# Altium schematic symbol library SamacSys.SchLib: 337 symbols (part 4 of 4)
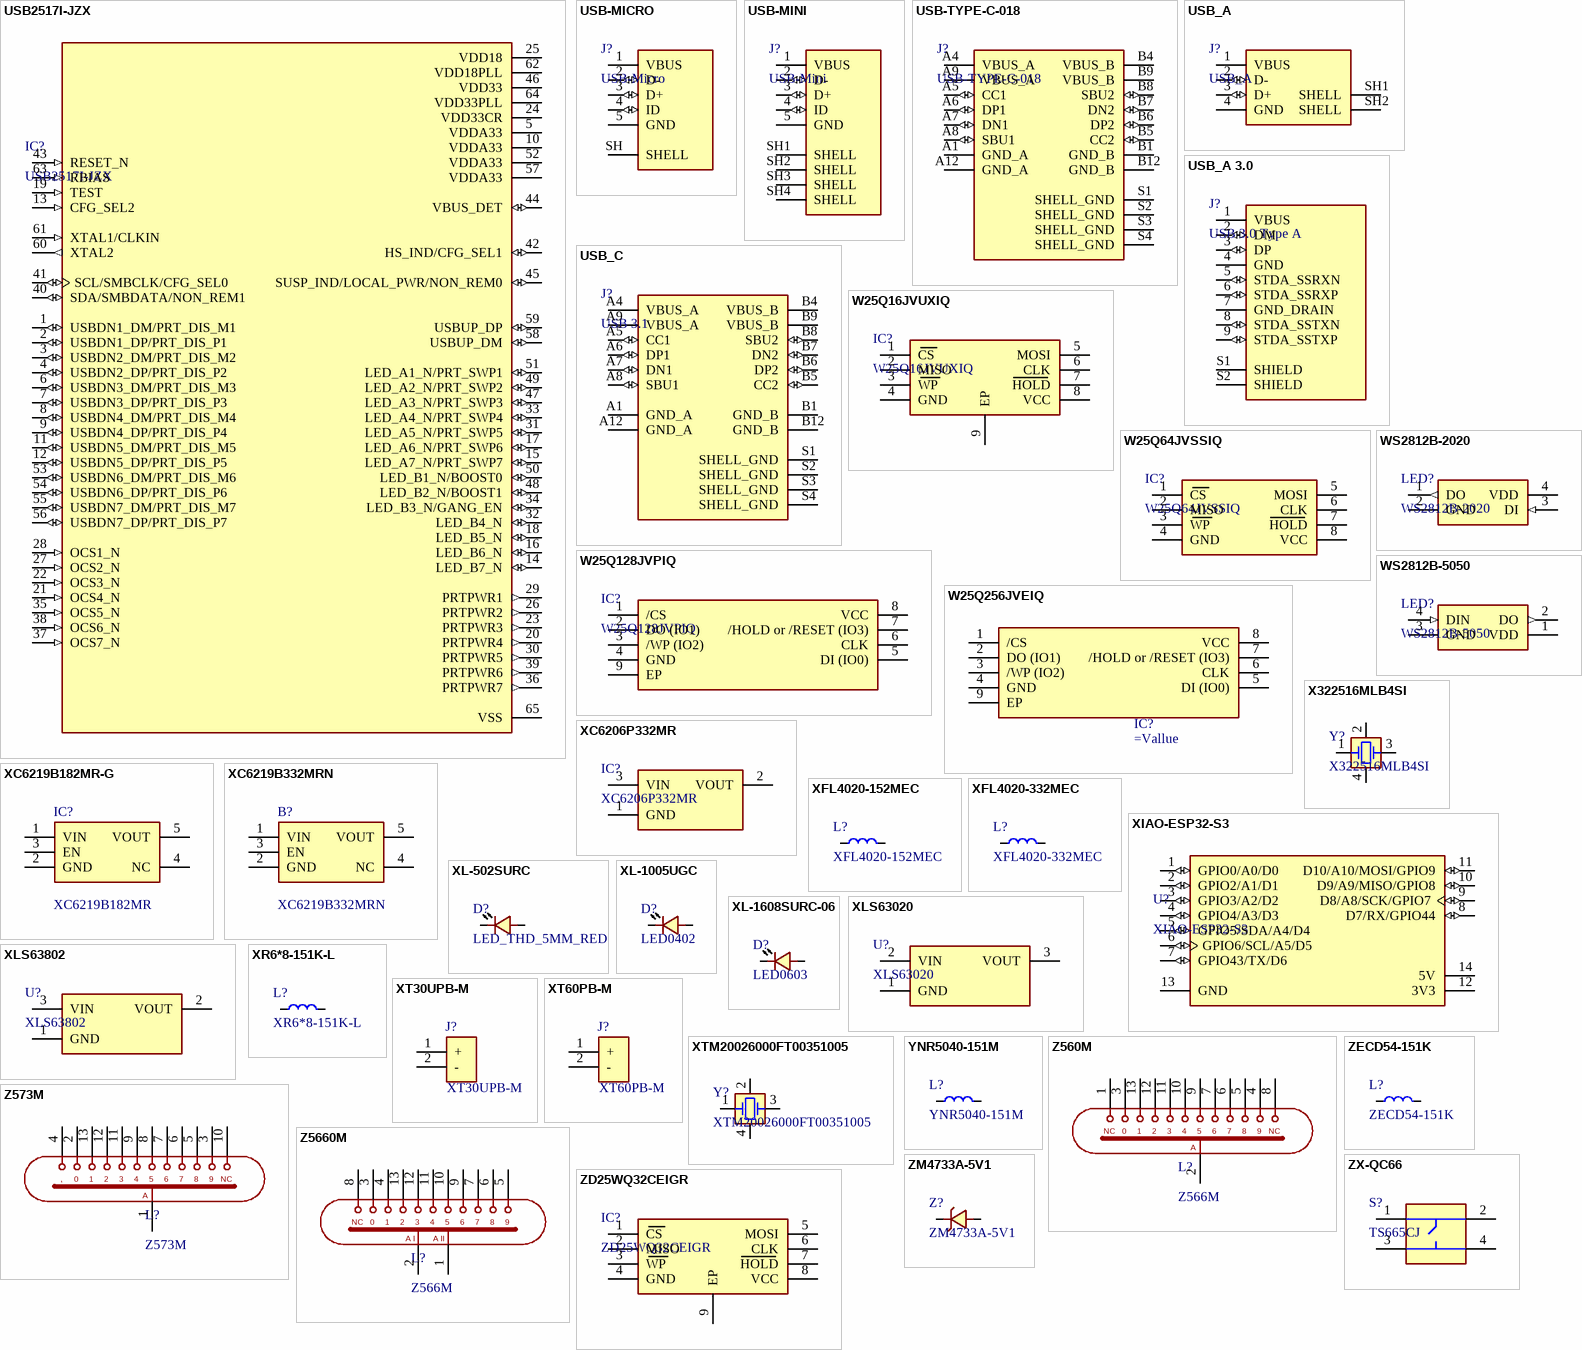
[diagram p13: symbols USB2517I-JZX to ZX-QC66]

## W25Q128JVPIQ
designator IC?
NOR FLASH, WSON-8-EP(5x6), 128Mbit, 133MHz, SPI, NOR FLASH, ROHS; Manufacturer_Name: Winbond; Datasheet Link: https://www.winbond.com/hq/search-resource-file.jsp?partNo=W25Q128JVPIQ&type=datasheet; Height: 0.8mm; Manufacturer_Part_Number: W25Q128JVPIQ; Mouser Part Number: 454-W25Q128JVPIQ; Mouser Price/Stock: https://www.mouser.co.uk/ProductDetail/Winbond/W25Q128JVPIQ?qs=qSfuJ%252Bfl%2Fd676hAD%252B1JSfw%3D%3D; Arrow Part Number: W25Q128JVPIQ; Arrow Price/Stock: https://www.arrow.com/en/products/w25q128jvpiq/winbond-electronics?region=nac; Value: W25Q128JVPIQ
footprint SON127P600X500X80-9N-D
pins: 1 /CS, 2 DO (IO1), 3 /WP (IO2), 4 GND, 5 DI (IO0), 6 CLK, 7 /HOLD or /RESET (IO3), 8 VCC, 9 EP

## W25Q256JVEIQ
designator IC?
NOR FLASH, WSON-8-EP(6x8), 256Mbit, 133MHz, SPI, NOR FLASH, ROHS; Manufacturer_Name: Winbond; Manufacturer_Part_Number: W25Q256JVEIQ; Geometry.Height: 0.8mm; Value: W25Q256JVEIQ; Mouser Part Number: 454-W25Q256JVEIQ; Mouser Price/Stock: https://www.mouser.co.uk/ProductDetail/Winbond/W25Q256JVEIQ?qs=qSfuJ%252Bfl%2Fd4o%2FNFUf7yCgA%3D%3D; Arrow Part Number: W25Q256JVEIQ; Arrow Price/Stock: https://www.arrow.com/en/products/w25q256jveiq/winbond-electronics?region=nac; Datasheet Link: https://www.winbond.com/hq/search-resource-file.jsp?partNo=W25Q256JVEIQ&type=datasheet
footprint SON127P800X600X80-9N-D
pins: 1 /CS, 2 DO (IO1), 3 /WP (IO2), 4 GND, 5 DI (IO0), 6 CLK, 7 /HOLD or /RESET (IO3), 8 VCC, 9 EP

## WS2812B-2020
designator LED?
LED (Built-in IC), SMD, 2.2x2mm, RGB LEDs(Built-in IC), ROHS; Datasheet Link: https://www.alldatasheet.com/datasheet-pdf/pdf/1134522/WORLDSEMI/WS2812B-2020.html; Height: 0.84mm; Value: WS2812B-2020
footprint WS2812B2020
pins: 1 DO (out), 2 GND (power), 3 DI (in), 4 VDD (power)

## WS2812B-5050
designator LED?
LED (Built-in IC), SMD, 5x5mm, RGB LEDs(Built-in IC), ROHS; Datasheet Link: https://www.alldatasheet.com/datasheet-pdf/pdf/1134522/WORLDSEMI/WS2812B-2020.html; Height: 0.84mm; Value: WS2812B-5050
footprint WS2812B5050
footprint WS2812B5050_2020
footprint WS2812B5050_2020 - SHORT
pins: 1 VDD, 2 DO (out), 3 GND, 4 DIN (in)

## X322516MLB4SI
designator Y?
Crystal Oscillator, SMD, 3225(3.2x2.5), 9pF, Crystals ROHS; Datasheet Link: https://datasheet.datasheetarchive.com/originals/distributors/Datasheets_SAMA/e448b11b6d77781431a8823f463adabd.pdf; Height: 0.9mm; Value: X322516MLB4SI
footprint XTL_4_3225 (Crystal, 4-Leads, Body 2.50x3.20mm, Pitch 2.20mm, IPC Medium Density)
pins: 1 XA, 2 GND1, 3 XB, 4 GND2

## XC6206P332MR
designator IC?
Low Drop Out (LDO) Regulator, SOT-23-3L, 200mA, Fixed, 3.3V, Positive Electrode, 6V, Voltage Regulators - Linear, Low Drop Out (LDO) Regulators, ROHS; Manufacturer_Name: Torex; Datasheet Link: http://www.torexsemi.com/products/voltage_regulators/data/XC6206.pdf; Height: 1.3mm; Manufacturer_Part_Number: XC6206P332MR; Mouser Part Number: N/A; Mouser Price/Stock: https://www.mouser.co.uk/ProductDetail/Torex-Semiconductor/XC6206P332MR?qs=TiOZkKH1s2Qxu69VLzzkSQ%3D%3D; Value: XC6206P332MR
footprint SOT95P280X130-3N
pins: 1 GND (power), 2 VOUT (power), 3 VIN (power)

## XC6219B182MR-G
designator IC?, comment XC6219B182MR
Low Drop Out (LDO) Regulator, SOT-23-5, 75dB@(1kHz), 300mA, Fixed 1.8V, Positive 7V, Voltage Regulators - Linear, Low Drop Out (LDO) Regulators ROHS; Manufacturer_Name: Torex; Manufacturer_Part_Number: XC6219B182MR-G; Geometry.Height: 1.3mm; Mouser Part Number: 865-XC6219B182MR-G; Mouser Price/Stock: https://www.mouser.co.uk/ProductDetail/Torex-Semiconductor/XC6219B182MR-G?qs=AsjdqWjXhJ8V%252BwSeYNOfsQ%3D%3D; Arrow Part Number: *; Arrow Price/Stock: *; Datasheet Link: https://www.torexsemi.com/file/xc6219/XC6219.pdf; Value: XC6219B182MR
footprint SOT95P280X130-5N
pins: 1 VIN, 2 GND, 3 EN, 4 NC, 5 VOUT

## XC6219B332MRN
designator B?
Low Drop Out (LDO) Regulator, SOT-23-5, 70dB@(10kHz), 240mA, Fixed, 3.3V, Positive Electrode, 6V, Voltage Regulators - Linear, Low Drop Out (LDO) Regulators, ROHS; Manufacturer_Name: Torex; Geometry.Height: 1.3mm; Manufacturer_Part_Number: XC6219B332MRN; Mouser Part Number: *; Mouser Price/Stock: *; Arrow Part Number: *; Arrow Price/Stock: *; Datasheet Link: https://componentsearchengine.com/Datasheets/2/XC6219B332MRN.pdf; Value: XC6219B332MRN
footprint SOT95P280X100-5N
pins: 1 VIN, 2 GND, 3 EN, 4 NC, 5 VOUT

## XFL4020-152MEC
designator L?
Fixed Inductor, SMD, 4x4mm, 1.5uH, 4.6A, ±20%, 9.1A, 14.4mΩ, Fixed Inductors, RoHS; Value: XFL4020-152MEC
footprint IND_SMD_4020
pins: 1, 2

## XFL4020-332MEC
designator L?
Fixed Inductor, SMD, 4x4mm, 3.3uH, 5.2A, ±20%, 2.9A, 34.8mΩ, Fixed Inductors, RoHS; Value: XFL4020-332MEC
footprint IND_SMD_4020
pins: 1, 2

## XIAO-ESP32-S3
designator U?
Development Board, SMD, 2.4GHz Wi-Fi (802.11 b/g/n) and Bluetooth 5 (LE) module, WiFi Modules, ROHS; MF: Seeed Technology Co., Ltd; MP: 102010428; SnapEDA_Link: https://www.snapeda.com/parts/102010428/Seeed+Technology+Co.%252C+Ltd/view-part/?ref=snap; Package: None; Value: XIAO-ESP32-S3; Check_prices: https://www.snapeda.com/parts/102010428/Seeed+Technology+Co.%252C+Ltd/view-part/?ref=eda
footprint XIAO_ESP32_S3_SMD
footprint XIAO_ESP32_S3_DIP
pins: 1 GPIO0/A0/D0 (io), 2 GPIO2/A1/D1 (io), 3 GPIO3/A2/D2 (io), 4 GPIO4/A3/D3 (io), 5 GPIO5/SDA/A4/D4 (io), 6 GPIO6/SCL/A5/D5 (io), 7 GPIO43/TX/D6 (io), 8 D7/RX/GPIO44 (io), 9 D8/A8/SCK/GPIO7 (io), 10 D9/A9/MISO/GPIO8 (io), 11 D10/A10/MOSI/GPIO9 (io), 12 3V3 (power), 13 GND (power), 14 5V (power)

## XL-502SURC
designator D?, comment LED_THD_5MM_RED
LED Indication - Discrete, 5mm, 20mA, 300mcd, Colorless Transparent Lens, 620nm~630nm, -20℃~+85℃, Red, 5mm Round Lamp Head, 50mW, 2.3V, Plugin, LED Indication - Discrete, ROHS; Datasheet Link: https://katalog.we-online.de/led/datasheet/150060GS55040.pdf; Height: 0.5mm; Value: LED_THD_5MM_RED
footprint LED THD 5MM RED
pins: 1 Kathode, 2 Anode

## XL-1005UGC
designator D?, comment LED0402
LED Indication - Discrete, 0402, 25mA, 249mcd, Colorless, Transparent Lens, -30℃~+85℃, Positive Stick, 516nm~531nm, Emerald, 120°, 80mW, 3V, LED Indication - Discrete, ROHS; Value: LED0402
footprint LED_SMD_0402_(M1005)_RED (Chip Diode, 2-Leads, Body 1.00x0.50mm, IPC Medium Density)
footprint LED_SMD_0402_(M1005)_GREEN
footprint LED_SMD_0402A_(M1005)_GREEN (Chip Diode, 2-Leads, Body 1.00x0.50mm, IPC Medium Density)
pins: 1 Kathode, 2 Anode

## XL-1608SURC-06
designator D?, comment LED0603
LED Indication - Discrete, 0603, 20mA, 225mcd, Colorless Transparent Lens, -20℃~+85℃, Positive Stick, 620nm~630nm, Red, 120°, 50mW, 2.3V, LED Indication - Discrete, ROHS; Datasheet Link: https://katalog.we-online.de/led/datasheet/150060GS55040.pdf; Height: 0.5mm; Value: LED0603
footprint LED 0603_(1608)_0402A_(1005) (Chip Diode, 2-Leads, Body 1.60x0.80mm, IPC Medium Density)
pins: 1 Kathode, 2 Anode

## XLS63020
designator U?
Development Board, DC-DC Controller, Boost Type, Adjustable, 1.2V~5.5V, 1.8V~5.5V, DC-DC Converters, ROHS; MP: TPS63802DLAR; MF: Texas Instruments; Check_prices: https://www.snapeda.com/parts/TPS63802DLAR/Texas+Instruments/view-part/?ref=eda; Value: XLS63020; Availability: In Stock; Price: None; Package: VSON-HR-10 Texas Instruments; SnapEDA_Link: https://www.snapeda.com/parts/TPS63802DLAR/Texas+Instruments/view-part/?ref=snap; Purchase-URL: https://pricing.snapeda.com/search/part/TPS63802DLAR/?ref=eda
footprint XLS63020
pins: 1 GND (power), 2 VIN (power), 3 VOUT (power)

## XLS63802
designator U?
Development Board, DC-DC Controller, Boost Type, Adjustable, 1.3V~5.5V, 2A, 1.8V~5.2V, DC-DC Converters, ROHS; MP: TPS63802DLAR; MF: Texas Instruments; Check_prices: https://www.snapeda.com/parts/TPS63802DLAR/Texas+Instruments/view-part/?ref=eda; Value: XLS63802; Availability: In Stock; Price: None; Package: VSON-HR-10 Texas Instruments; SnapEDA_Link: https://www.snapeda.com/parts/TPS63802DLAR/Texas+Instruments/view-part/?ref=snap; Purchase-URL: https://pricing.snapeda.com/search/part/TPS63802DLAR/?ref=eda
footprint XLS63802
pins: 1 GND (power), 2 VOUT (power), 3 VIN (power)

## XR6*8-151K-L
designator L?
Fixed Inductor, Through Hole, D6xL8mm, 150uH, ±10%, 500mA, 780mΩ,  Drum-core Inductor, Fixed Inductors, RoHS; Value: XR6*8-151K-L
footprint XR6*8-151K-L_FNR6045S151MT_THD (Inductor)
footprint CDRH74N + CD54 + TH
footprint XR6*8-151K-L_CDRH74N_THD
pins: 1, 2

## XT30UPB-M
designator J?
Connector, DC Supply, Male, PCB, THD, 20A, Banana and Tip Connector Adapters, RoHS; Manufacturer_Name: Amass; Manufacturer_Part_Number: XT60PB-M; Geometry.Height: 15.9mm; Mouser Part Number: *; Mouser Price/Stock: *; Arrow Part Number: *; Arrow Price/Stock: *; Datasheet Link: https://www.tme.eu/Document/ceb306d6300f4d2860483975b79af125/XT60UPB-M.pdf; Value: XT30UPB-M
footprint XT30UPB-M
pins: 1 +, 2 -

## XT60PB-M
designator J?
Connector, DC Supply, Male, PCB, THD, 30A, Banana and Tip Connector Adapters, RoHS; Manufacturer_Name: Amass; Geometry.Height: 15.9mm; Manufacturer_Part_Number: XT60PB-M; Mouser Part Number: *; Mouser Price/Stock: *; Arrow Part Number: *; Arrow Price/Stock: *; Datasheet Link: https://www.tme.eu/Document/ceb306d6300f4d2860483975b79af125/XT60UPB-M.pdf; Value: XT60PB-M
footprint XT60PB-M (Footprint not found)
pins: 1 +, 2 -

## XTM20026000FT00351005
designator Y?
Crystal Oscillator, SMD, SMD2016-4P, 2x1.6mm, 26MHz, 9pF, ±10ppm, ±20ppm, Crystals, ROHS; Datasheet Link: https://datasheet.datasheetarchive.com/originals/distributors/Datasheets_SAMA/e448b11b6d77781431a8823f463adabd.pdf; Height: 0.9mm; Value: XTM20026000FT00351005
footprint XTL_4_2016 (ABM11)
footprint XTL_4_2016A (ABM11)
pins: 1 XA, 2 GND1, 3 XB, 4 GND2

## YNR5040-151M
designator L?
Fixed Inductor, SMD, 5x5mm, 150uH, 600mA, Magnetic Shielded Inductor, ±20%, 750mΩ, Fixed Inductors ROHS; Value: YNR5040-151M
footprint IND_SMD_NR5040
pins: 1, 2

## Z560M
designator L?, comment Z566M
Nixie Tube, Z560M, Germany, Gas-Filed, Cold Cathode, 10-Digit, Numerical Indicator, Nixie Tubes; Value: Z566M
footprint Z5600M
pins: 1, 2, 3, 4, 5, 6, 7, 8, 9, 10, 11, 12, 13
text: NC; 0; A

## Z573M
designator L?
Nixie Tube, Z573M, Germany, Gas-Filed, Cold Cathode, 10-Digit, Numerical Indicator, Nixie Tubes; Value: Z573M
footprint Z573M
pins: 1, 2, 3, 4, 5, 6, 7, 8, 9, 10, 11, 12, 13
text: ,; 0; NC; A

## Z5660M
designator L?, comment Z566M
Nixie Tube, Z566M, Germany, Gas-Filed, Cold Cathode, 10-Digit, Numerical Indicator, Nixie Tubes; Value: Z566M
footprint Z5660M
pins: 1, 2, 3, 4, 5, 6, 7, 8, 9, 10, 11, 12, 13
text: NC; 0; A I; A II

## ZD25WQ32CEIGR
designator IC?
NOR FLASH, USON-8-EP(2x3), 32MBit, SPI, 104MHz, NOR FLASH, ROHS; Datasheet Link: https://www.mouser.com/datasheet/2/949/w25q16jv_dtr_reve_02092018_plus-1489664.pdf; Height: 0.6mm; Value: ZD25WQ32CEIGR
footprint SON50P300X200X60-9N-D
pins: 1 CS, 2 MISO, 3 WP, 4 GND (power), 5 MOSI, 6 CLK, 7 HOLD, 8 VCC, 9 EP

## ZECD54-151K
designator L?
Fixed Inductor, SMD, 5.8x5.2mm, 150uH, 450mA, Unshielded Inductor, ±10%, 1.1Ω, Fixed Inductors ROHS; Value: ZECD54-151K
footprint CD54 (Inductor)
footprint CD54 + THD (Inductor)
pins: 1, 2

## ZM4733A-5V1
designator Z?
Zener Diode, SMD, LL-41, 5.1V, 1W, Independent Type, Zener Diodes, ROHS; Datasheet Link: https://componentsearchengine.com/Datasheets/1/ZM4733A-GS08.pdf; Value: ZM4733A-5V1
footprint ZM4733AGS08
pins: 1 Kathode, 2 Anode

## ZX-QC66
designator S?, comment TS665CJ
Switch Tactile, SMD, 6x6mm, Round Button, 50mA, Tactile Switches, ROHS; Datasheet Link: https://componentsearchengine.com/Datasheets/2/TL1105YF160Q.pdf; Height: 17mm; Value: TS665CJ
footprint ZX-QC66
pins: 1, 2, 3, 4